# Altium schematic symbol library 0ALD488.SCHLIB: 78 symbols
Pins are listed as number, name and electrical type; pins without a type are passive.

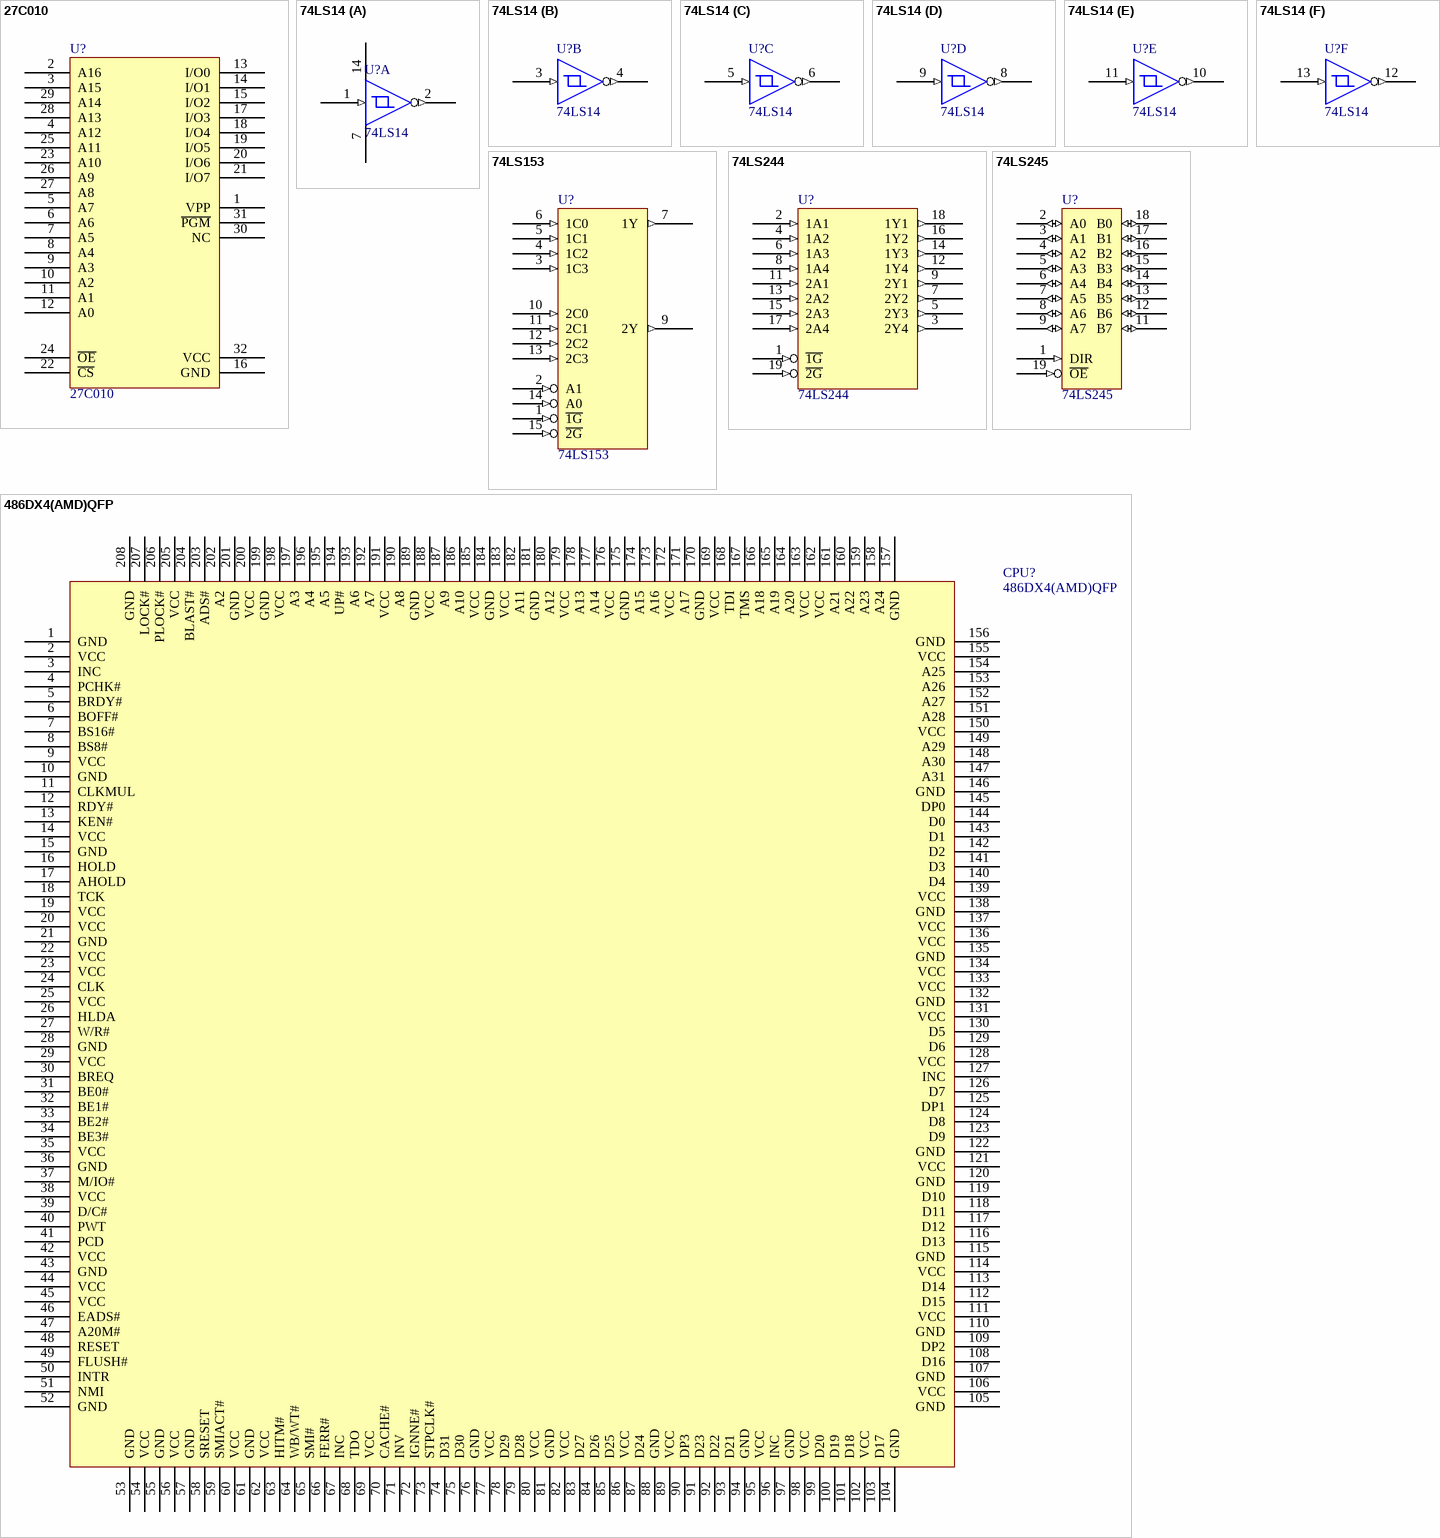
[diagram p0: symbols 27C010 to 486DX4(AMD)QFP]

## 27C010
designator U?
footprint DIP32
footprint ZIF32
pins: 1 VPP, 2 A16, 3 A15, 4 A12, 5 A7, 6 A6, 7 A5, 8 A4, 9 A3, 10 A2, 11 A1, 12 A0, 13 I/O0, 14 I/O1, 15 I/O2, 16 GND, 17 I/O3, 18 I/O4, 19 I/O5, 20 I/O6, 21 I/O7, 22 ~{CS}, 23 A10, 24 ~{OE}, 25 A11, 26 A9, 27 A8, 28 A13, 29 A14, 30 NC, 31 ~{PGM}, 32 VCC

## 74LS14
designator U?
footprint DIP-14
footprint SO-14
part A pins: 1 (in), 2 (out), 7 GND (power), 14 (power)
part B pins: 3 (in), 4 (out)
part C pins: 5 (in), 6 (out)
part D pins: 8 (out), 9 (in)
part E pins: 10 (out), 11 (in)
part F pins: 12 (out), 13 (in)

## 74LS153
designator U?
footprint DIP-16
pins: 1 ~{1G} (in), 2 A1 (in), 3 1C3 (in), 4 1C2 (in), 5 1C1 (in), 6 1C0 (in), 7 1Y (out), 8 GND (power) hidden to GND, 9 2Y (out), 10 2C0 (in), 11 2C1 (in), 12 2C2 (in), 13 2C3 (in), 14 A0 (in), 15 ~{2G} (in), 16 VCC (power) hidden to VCC

## 74LS244
designator U?
footprint DIP-20
footprint DIP20
pins: 1 ~{1G} (in), 2 1A1 (in), 3 2Y4 (out), 4 1A2 (in), 5 2Y3 (out), 6 1A3 (in), 7 2Y2 (out), 8 1A4 (in), 9 2Y1 (out), 10 GND (power) hidden to GND, 11 2A1 (in), 12 1Y4 (out), 13 2A2 (in), 14 1Y3 (out), 15 2A3 (in), 16 1Y2 (out), 17 2A4 (in), 18 1Y1 (out), 19 ~{2G} (in), 20 VCC (power) hidden to VCC

## 74LS245
designator U?
footprint DIP-20
footprint DIP20
footprint SOP20
pins: 1 DIR (in), 2 A0 (io), 3 A1 (io), 4 A2 (io), 5 A3 (io), 6 A4 (io), 7 A5 (io), 8 A6 (io), 9 A7 (io), 10 GND (power) hidden to GND, 11 B7 (io), 12 B6 (io), 13 B5 (io), 14 B4 (io), 15 B3 (io), 16 B2 (io), 17 B1 (io), 18 B0 (io), 19 ~{OE} (in), 20 VCC (power) hidden to VCC

## 486DX4(AMD)QFP
designator CPU?
footprint QFP208
pins: 1 GND, 2 VCC, 3 INC, 4 PCHK#, 5 BRDY#, 6 BOFF#, 7 BS16#, 8 BS8#, 9 VCC, 10 GND, 11 CLKMUL, 12 RDY#, 13 KEN#, 14 VCC, 15 GND, 16 HOLD, 17 AHOLD, 18 TCK, 19 VCC, 20 VCC, 21 GND, 22 VCC, 23 VCC, 24 CLK, 25 VCC, 26 HLDA, 27 W/R#, 28 GND, 29 VCC, 30 BREQ, 31 BE0#, 32 BE1#, 33 BE2#, 34 BE3#, 35 VCC, 36 GND, 37 M/IO#, 38 VCC, 39 D/C#, 40 PWT, 41 PCD, 42 VCC, 43 GND, 44 VCC, 45 VCC, 46 EADS#, 47 A20M#, 48 RESET, 49 FLUSH#, 50 INTR, 51 NMI, 52 GND, 53 GND, 54 VCC, 55 GND, 56 VCC, 57 GND, 58 SRESET, 59 SMIACT#, 60 VCC, 61 GND, 62 VCC, 63 HITM#, 64 WB/WT#, 65 SMI#, 66 FERR#, 67 INC, 68 TDO, 69 VCC, 70 CACHE#, 71 INV, 72 IGNNE#, 73 STPCLK#, 74 D31, 75 D30, 76 GND, 77 VCC, 78 D29, 79 D28, 80 VCC, 81 GND, 82 VCC, 83 D27, 84 D26, 85 D25, 86 VCC, 87 D24, 88 GND, 89 VCC, 90 DP3, 91 D23, 92 D22, 93 D21, 94 GND, 95 VCC, 96 INC, 97 GND, 98 VCC, 99 D20, 100 D19, 101 D18, 102 VCC, 103 D17, 104 GND, 105 GND, 106 VCC, 107 GND, 108 D16, 109 DP2, 110 GND, 111 VCC, 112 D15, 113 D14, 114 VCC, 115 GND, 116 D13, 117 D12, 118 D11, 119 D10, 120 GND, 121 VCC, 122 GND, 123 D9, 124 D8, 125 DP1, 126 D7, 127 INC, 128 VCC, 129 D6, 130 D5, 131 VCC, 132 GND, 133 VCC, 134 VCC, 135 GND, 136 VCC, 137 VCC, 138 GND, 139 VCC, 140 D4, 141 D3, 142 D2, 143 D1, 144 D0, 145 DP0, 146 GND, 147 A31, 148 A30, 149 A29, 150 VCC, 151 A28, 152 A27, 153 A26, 154 A25, 155 VCC, 156 GND, 157 GND, 158 A24, 159 A23, 160 A22, 161 A21, 162 VCC, 163 VCC, 164 A20, 165 A19, 166 A18, 167 TMS, 168 TDI, 169 VCC, 170 GND, 171 A17, 172 VCC, 173 A16, 174 A15, 175 GND, 176 VCC, 177 A14, 178 A13, 179 VCC, 180 A12, 181 GND, 182 A11, 183 VCC, 184 GND, 185 VCC, 186 A10, 187 A9, 188 VCC, 189 GND, 190 A8, 191 VCC, 192 A7, 193 A6, 194 UP#, 195 A5, 196 A4, 197 A3, 198 VCC, 199 GND, 200 VCC, 201 GND, 202 A2, 203 ADS#, 204 BLAST#, 205 VCC, 206 PLOCK#, 207 LOCK#, 208 GND

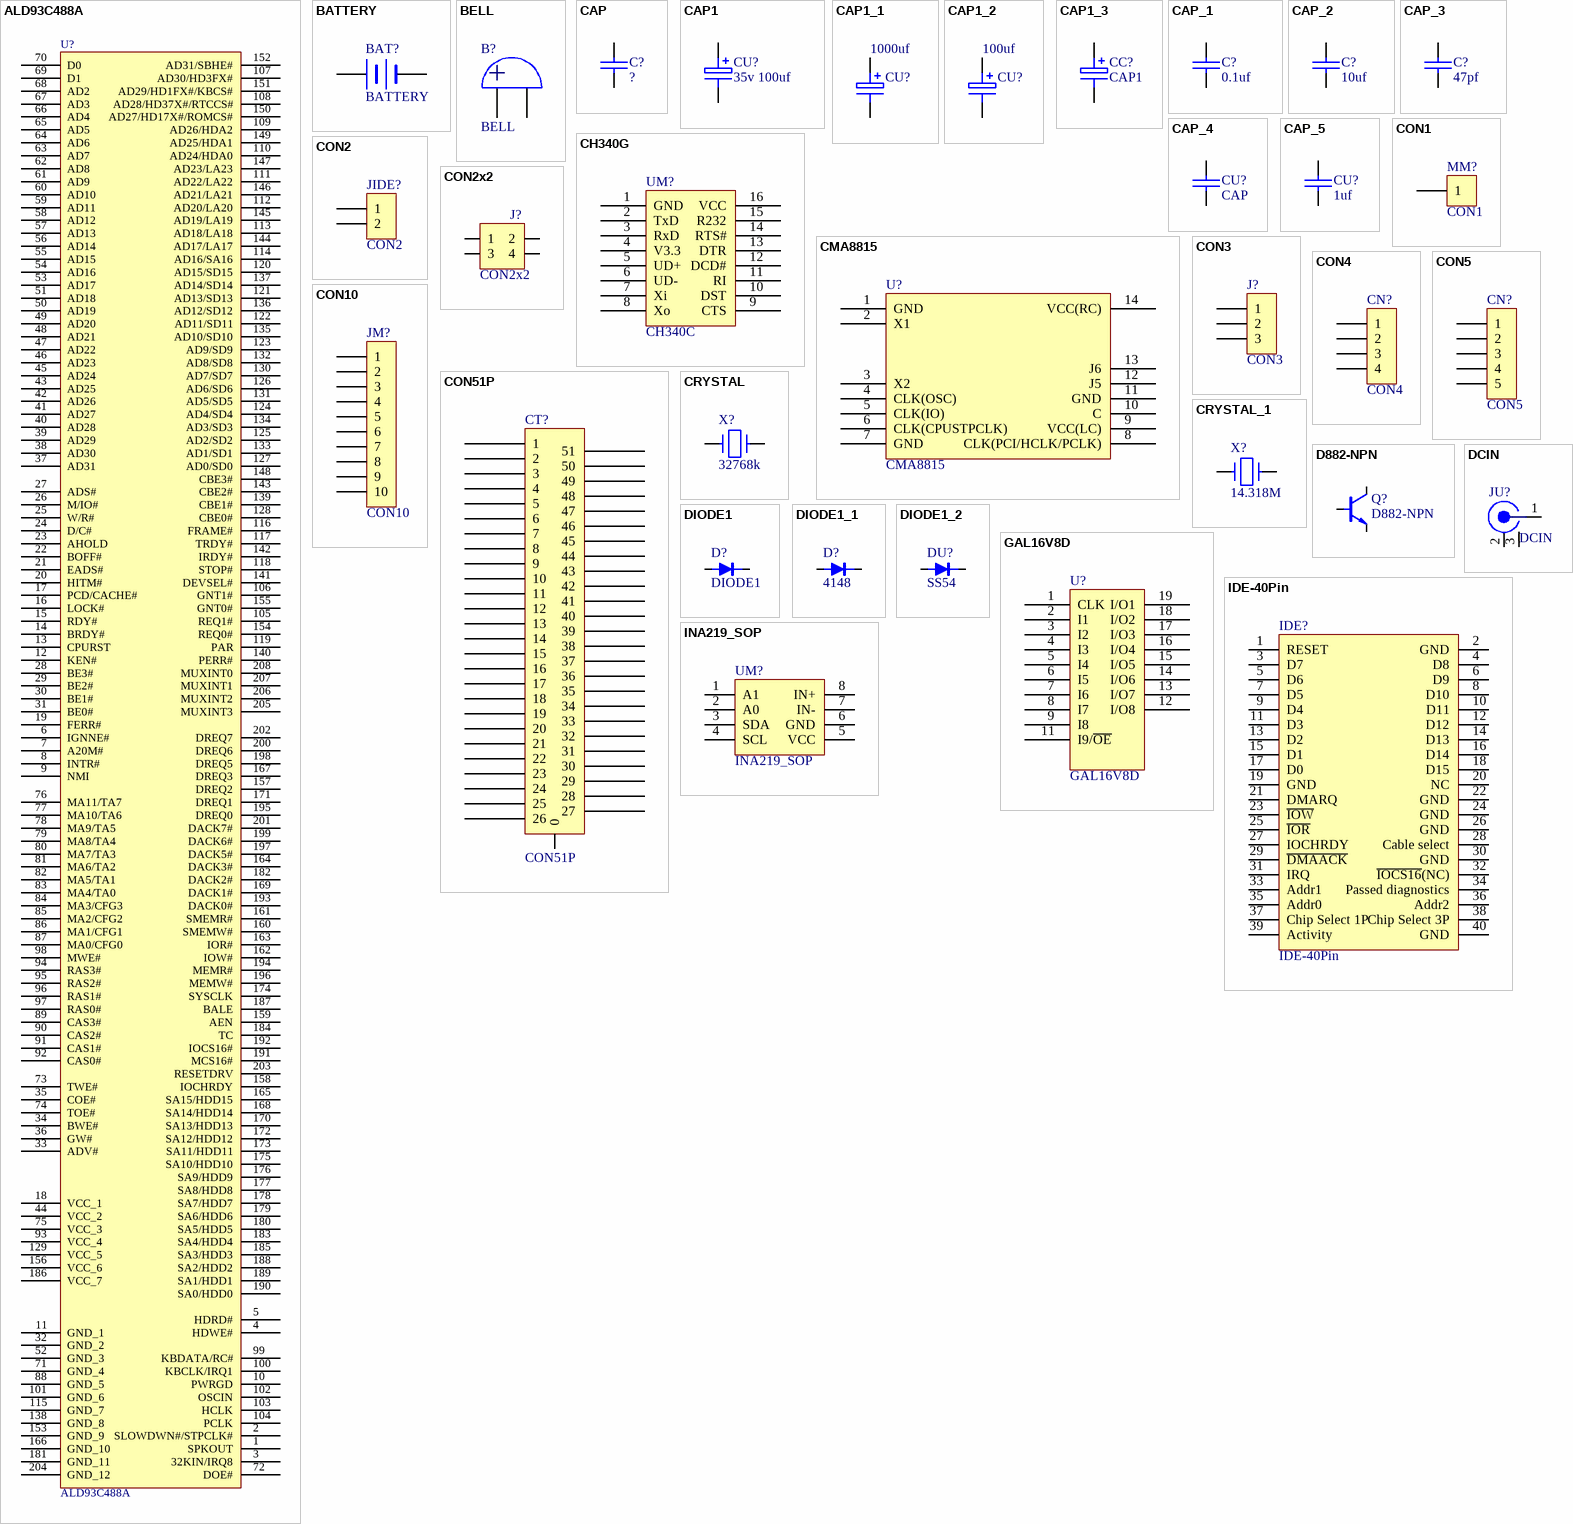
[diagram p1: symbols ALD93C488A to INA219_SOP]

## ALD93C488A
designator U?
footprint QFP208
pins: 1 SPKOUT, 2 SLOWDWN#/STPCLK#, 3 32KIN/IRQ8, 4 HDWE#, 5 HDRD#, 6 IGNNE#, 7 A20M#, 8 INTR#, 9 NMI, 10 PWRGD, 11 GND_1, 12 KEN#, 13 CPURST, 14 BRDY#, 15 RDY#, 16 LOCK#, 17 PCD/CACHE#, 18 VCC_1, 19 FERR#, 20 HITM#, 21 EADS#, 22 BOFF#, 23 AHOLD, 24 D/C#, 25 W/R#, 26 M/IO#, 27 ADS#, 28 BE3#, 29 BE2#, 30 BE1#, 31 BE0#, 32 GND_2, 33 ADV#, 34 BWE#, 35 COE#, 36 GW#, 37 AD31, 38 AD30, 39 AD29, 40 AD28, 41 AD27, 42 AD26, 43 AD25, 44 VCC_2, 45 AD24, 46 AD23, 47 AD22, 48 AD21, 49 AD20, 50 AD19, 51 AD18, 52 GND_3, 53 AD17, 54 AD16, 55 AD15, 56 AD14, 57 AD13, 58 AD12, 59 AD11, 60 AD10, 61 AD9, 62 AD8, 63 AD7, 64 AD6, 65 AD5, 66 AD4, 67 AD3, 68 AD2, 69 D1, 70 D0, 71 GND_4, 72 DOE#, 73 TWE#, 74 TOE#, 75 VCC_3, 76 MA11/TA7, 77 MA10/TA6, 78 MA9/TA5, 79 MA8/TA4, 80 MA7/TA3, 81 MA6/TA2, 82 MA5/TA1, 83 MA4/TA0, 84 MA3/CFG3, 85 MA2/CFG2, 86 MA1/CFG1, 87 MA0/CFG0, 88 GND_5, 89 CAS3#, 90 CAS2#, 91 CAS1#, 92 CAS0#, 93 VCC_4, 94 RAS3#, 95 RAS2#, 96 RAS1#, 97 RAS0#, 98 MWE#, 99 KBDATA/RC#, 100 KBCLK/IRQ1, 101 GND_6, 102 OSCIN, 103 HCLK, 104 PCLK, 105 REQ1#, 106 GNT1#, 107 AD30/HD3FX#, 108 AD28/HD37X#/RTCCS#, 109 AD26/HDA2, 110 AD24/HDA0, 111 AD22/LA22, 112 AD20/LA20, 113 AD18/LA18, 114 AD16/SA16, 115 GND_7, 116 FRAME#, 117 TRDY#, 118 STOP#, 119 PAR, 120 AD15/SD15, 121 AD13/SD13, 122 AD11/SD11, 123 AD9/SD9, 124 AD4/SD4, 125 AD2/SD2, 126 AD6/SD6, 127 AD0/SD0, 128 CBE0#, 129 VCC_5, 130 AD7/SD7, 131 AD5/SD5, 132 AD8/SD8, 133 AD1/SD1, 134 AD3/SD3, 135 AD10/SD10, 136 AD12/SD12, 137 AD14/SD14, 138 GND_8, 139 CBE1#, 140 PERR#, 141 DEVSEL#, 142 IRDY#, 143 CBE2#, 144 AD17/LA17, 145 AD19/LA19, 146 AD21/LA21, 147 AD23/LA23, 148 CBE3#, 149 AD25/HDA1, 150 AD27/HD17X#/ROMCS#, 151 AD29/HD1FX#/KBCS#, 152 AD31/SBHE#, 153 GND_9, 154 REQ0#, 155 GNT0#, 156 VCC_6, 157 DREQ2, 158 IOCHRDY, 159 AEN, 160 SMEMW#, 161 SMEMR#, 162 IOW#, 163 IOR#, 164 DACK3#, 165 SA15/HDD15, 166 GND_10, 167 DREQ3, 168 SA14/HDD14, 169 DACK1#, 170 SA13/HDD13, 171 DREQ1, 172 SA12/HDD12, 173 SA11/HDD11, 174 SYSCLK, 175 SA10/HDD10, 176 SA9/HDD9, 177 SA8/HDD8, 178 SA7/HDD7, 179 SA6/HDD6, 180 SA5/HDD5, 181 GND_11, 182 DACK2#, 183 SA4/HDD4, 184 TC, 185 SA3/HDD3, 186 VCC_7, 187 BALE, 188 SA2/HDD2, 189 SA1/HDD1, 190 SA0/HDD0, 191 MCS16#, 192 IOCS16#, 193 DACK0#, 194 MEMR#, 195 DREQ0, 196 MEMW#, 197 DACK5#, 198 DREQ5, 199 DACK6#, 200 DREQ6, 201 DACK7#, 202 DREQ7, 203 RESETDRV, 204 GND_12, 205 MUXINT3, 206 MUXINT2, 207 MUXINT1, 208 MUXINT0

## BATTERY
designator BAT?
footprint BATTERY
footprint 3v battery
footprint MY-BATT10mm
footprint BATTERY3
pins: 1 +, 2 -

## BELL
designator B?
footprint bell
footprint BELL_8530
pins: 1, 2

## CAP
designator C?, comment ?
footprint RAD0.1
footprint RAD0.2
footprint RAD0.3
footprint C0805
footprint C0603
pins: 1, 2

## CAP1
designator CU?, comment 35v 100uf
footprint RB.1/.2
footprint RB.1/.2A
footprint RB.2/.4
footprint CD4
footprint SMD-EC-F6.3
footprint SMD-EC-F5
footprint CD6
pins: 1, 2 E

## CAP1_1
designator CU?, comment 1000uf
footprint RB.1/.2
footprint RB.1/.2A
footprint RB.2/.4
footprint CD4
footprint SMD-EC-F6.3
footprint SMD-EC-F10
footprint C2512
footprint C7343
pins: 1, 2 E

## CAP1_2
designator CU?, comment 100uf
footprint RB.1/.2
footprint RB.1/.2A
footprint RB.2/.4
footprint CD4
footprint SMD-EC-F6.3
footprint SMD-EC-F10
footprint C2512
footprint C7343
pins: 1, 2 E

## CAP1_3
designator CC?, comment CAP1
footprint RB.1/.2
footprint RB.1/.2A
footprint RB.2/.4
footprint CD4
footprint SMD-EC-F6.3
footprint SMD-EC-F10
footprint C2512
pins: 1, 2 E

## CAP_1
designator C?, comment 0.1uf
footprint RAD0.1
footprint RAD0.2
footprint RAD0.3
footprint C0805
footprint C0603
pins: 1, 2

## CAP_2
designator C?, comment 10uf
footprint RAD0.1
footprint RAD0.2
footprint RAD0.3
footprint C0805
footprint C0603
pins: 1, 2

## CAP_3
designator C?, comment 47pf
footprint RAD0.1
footprint RAD0.2
footprint RAD0.3
footprint C0805
footprint C0603
pins: 1, 2

## CAP_4
designator CU?, comment CAP
footprint RAD0.1
footprint RAD0.2
footprint RAD0.3
footprint C0805
footprint C0603
pins: 1, 2

## CAP_5
designator CU?, comment 1uf
footprint RAD0.1
footprint RAD0.2
footprint RAD0.3
footprint SMD-EC-F6.3
footprint C0805
footprint C0603
pins: 1, 2

## CH340G
designator UM?, comment CH340C
footprint SOP-16
pins: 1 GND, 2 TxD, 3 RxD, 4 V3.3, 5 UD+, 6 UD-, 7 Xi, 8 Xo, 9 CTS, 10 DST, 11 RI, 12 DCD#, 13 DTR, 14 RTS#, 15 R232, 16 VCC

## CMA8815
designator U?
footprint DIP14
pins: 1 GND, 2 X1, 3 X2, 4 CLK(OSC), 5 CLK(IO), 6 CLK(CPUSTPCLK), 7 GND, 8 CLK(PCI/HCLK/PCLK), 9 VCC(LC), 10 C, 11 GND, 12 J5, 13 J6, 14 VCC(RC)

## CON1
designator MM?
footprint SIP1
footprint PAD-SMD
footprint PAD-DIP1mm
footprint M2
footprint M2.5
footprint M3
pins: 1

## CON2
designator JIDE?
footprint DG1282-5.0
footprint SIP2
footprint DG1282
footprint XH2.54-2
footprint KF127-2(5.08)
footprint VH3.96-2
footprint 1.25mmA-2P (立贴)
footprint 1.25mmB-2P (卧贴)
pins: 1, 2

## CON2x2
designator J?
footprint SIP2x2(2.54)
pins: 1, 2, 3, 4

## CON3
designator J?
footprint DG1283-5.0
footprint SIP3
pins: 1, 2, 3

## CON4
designator CN?
footprint DG1284-5.0
footprint SIP4
footprint DG1284
footprint XH2.54-4
footprint 1.25mmA-4P (立贴)
footprint 1.25mmB-4P (卧贴)
pins: 1, 2, 3, 4

## CON5
designator CN?
footprint PS2-XT-5
footprint SIP5
pins: 1, 2, 3, 4, 5

## CON10
designator JM?
footprint DG12810-5.0
footprint sip10
pins: 1, 2, 3, 4, 5, 6, 7, 8, 9, 10

## CON51P
designator CT?
footprint BTB1.0-51P
pins: 0, 1, 2, 3, 4, 5, 6, 7, 8, 9, 10, 11, 12, 13, 14, 15, 16, 17, 18, 19, 20, 21, 22, 23, 24, 25, 26, 27, 28, 29, 30, 31, 32, 33, 34, 35, 36, 37, 38, 39, 40, 41, 42, 43, 44, 45, 46, 47, 48, 49, 50, 51

## CRYSTAL
designator X?, comment 32768k
footprint XTAL
footprint 5032
footprint XTAL3213
footprint CRY-26 (CRYSTAL)
pins: 1, 2

## CRYSTAL_1
designator X?, comment 14.318M
footprint XTAL
footprint 5032
footprint XTAL3213
pins: 1, 2

## D882-NPN
designator Q?
footprint TO-126A
pins: 1 E, 2 C, 3 B

## DCIN
designator JU?
Connector
footprint DC5.5-2.5
footprint DC5.5-2.5 - 10A
footprint DC4-1.3
pins: 1 +, 2 -, 3 -

## DIODE1
designator D?
footprint DIODE0.4A
footprint DO-214A(SMA)
footprint TO-252(DPAK) (D2-PAK/TO-263-AB; 3 Leads (1 Cropped); Body 15.5 (inc. leads) x 10.5 mm (LxW max))
footprint SOD123
footprint SOD323
footprint SMx
pins: A, K

## DIODE1_1
designator D?, comment 4148
footprint DIODE0.4A
footprint DO-214A(SMA)
footprint TO-252(DPAK) (D2-PAK/TO-263-AB; 3 Leads (1 Cropped); Body 15.5 (inc. leads) x 10.5 mm (LxW max))
footprint SOD123
footprint SOD323
footprint SMx
pins: A, K

## DIODE1_2
designator DU?, comment SS54
footprint DIODE0.4A
footprint DO-214A(SMA)
footprint TO-252(DPAK) (D2-PAK/TO-263-AB; 3 Leads (1 Cropped); Body 15.5 (inc. leads) x 10.5 mm (LxW max))
footprint SOD123
footprint SOD323
pins: A, K

## GAL16V8D
designator U?
footprint DIP-20
footprint DIP20
pins: 1 CLK, 2 I1, 3 I2, 4 I3, 5 I4, 6 I5, 7 I6, 8 I7, 9 I8, 10 GND (power) hidden to GND, 11 I9/~{OE}, 12 I/O8, 13 I/O7, 14 I/O6, 15 I/O5, 16 I/O4, 17 I/O3, 18 I/O2, 19 I/O1, 20 VCC (power) hidden to VCC

## IDE-40Pin
designator IDE?
footprint MY-IDE40
pins: 1 RESET, 2 GND, 3 D7, 4 D8, 5 D6, 6 D9, 7 D5, 8 D10, 9 D4, 10 D11, 11 D3, 12 D12, 13 D2, 14 D13, 15 D1, 16 D14, 17 D0, 18 D15, 19 GND, 20 NC, 21 DMARQ, 22 GND, 23 ~{IOW}, 24 GND, 25 ~{IOR}, 26 GND, 27 IOCHRDY, 28 Cable select, 29 ~{DMAACK}, 30 GND, 31 IRQ, 32 ~{IOCS16}(NC), 33 Addr1, 34 Passed diagnostics, 35 Addr0, 36 Addr2, 37 Chip Select 1P, 38 Chip Select 3P, 39 Activity, 40 GND

## INA219_SOP
designator UM?
footprint SO-8
pins: 1 A1, 2 A0, 3 SDA, 4 SCL, 5 VCC, 6 GND, 7 IN-, 8 IN+

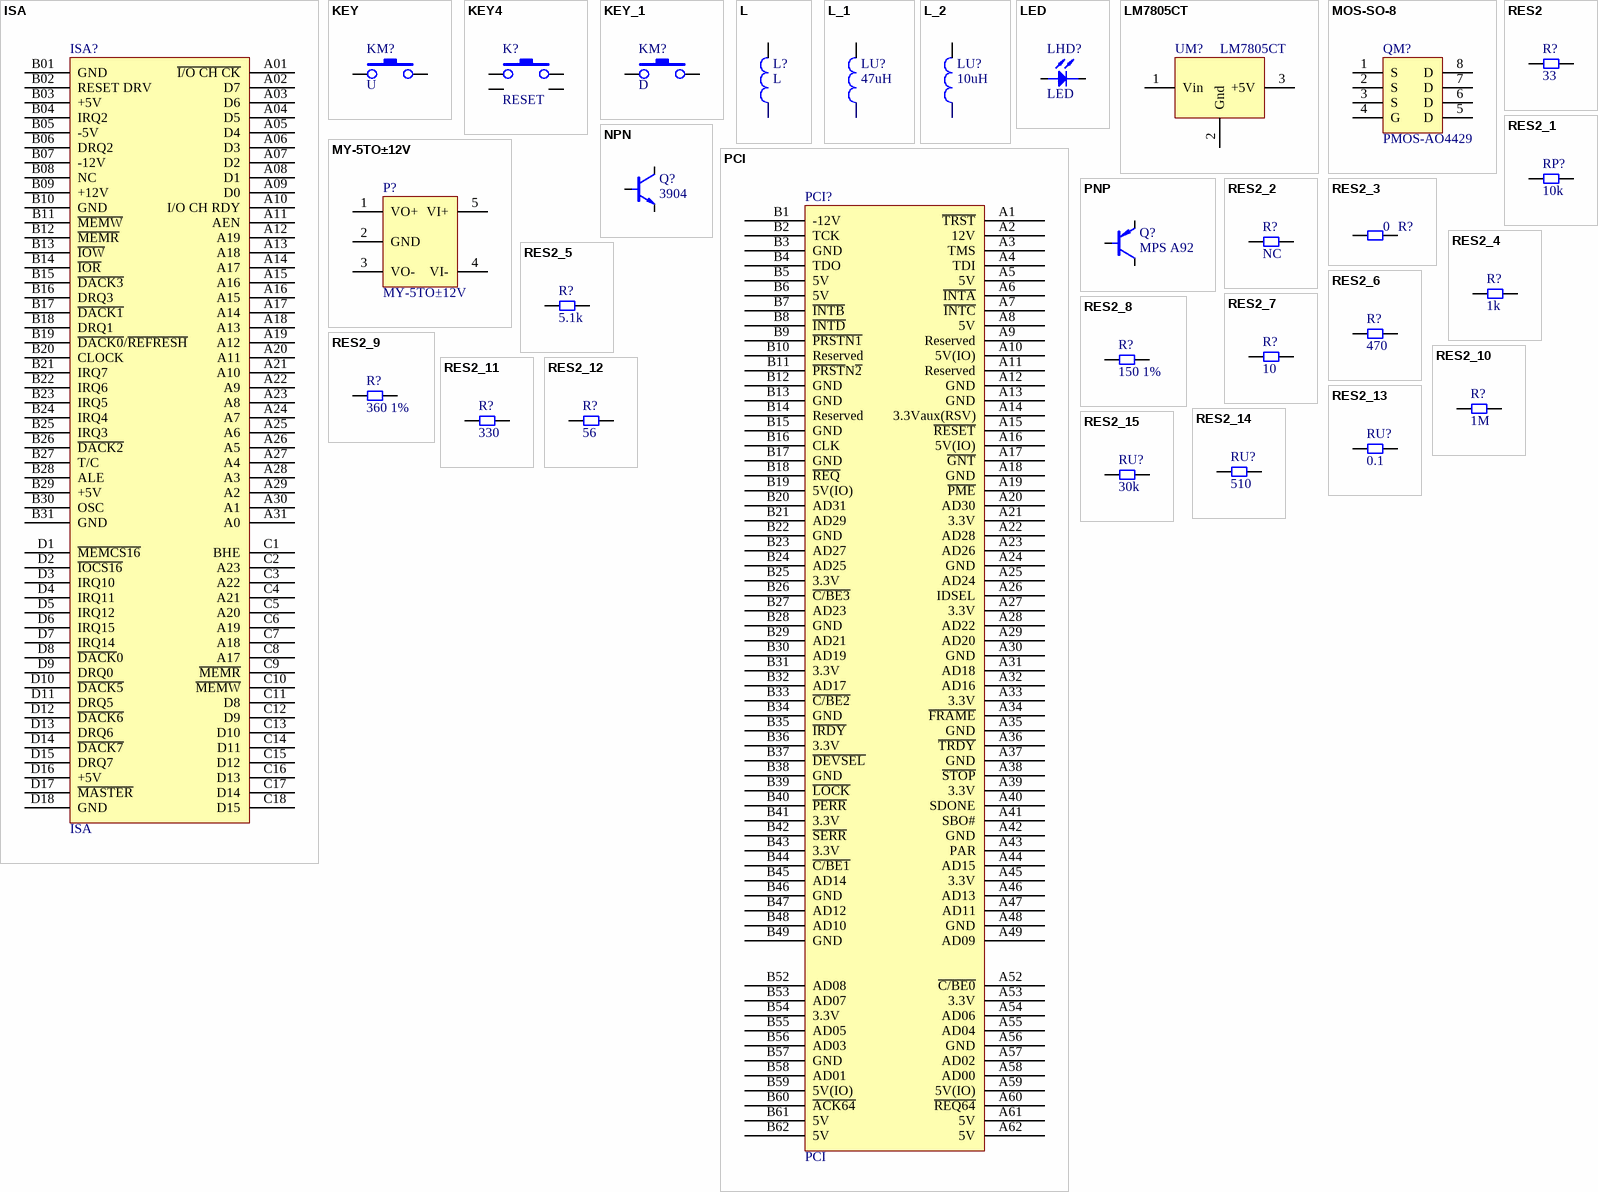
[diagram p2: symbols ISA to RES2_15]

## ISA
designator ISA?
footprint PCI
footprint MY-ISA16-98
pins: A01 ~{I/O CH CK}, A02 D7, A03 D6, A04 D5, A05 D4, A06 D3, A07 D2, A08 D1, A09 D0, A10 I/O CH RDY, A11 AEN, A12 A19, A13 A18, A14 A17, A15 A16, A16 A15, A17 A14, A18 A13, A19 A12, A20 A11, A21 A10, A22 A9, A23 A8, A24 A7, A25 A6, A26 A5, A27 A4, A28 A3, A29 A2, A30 A1, A31 A0, B01 GND, B02 RESET DRV, B03 +5V, B04 IRQ2, B05 -5V, B06 DRQ2, B07 -12V, B08 NC, B09 +12V, B10 GND, B11 ~{MEMW}, B12 ~{MEMR}, B13 ~{IOW}, B14 ~{IOR}, B15 ~{DACK3}, B16 DRQ3, B17 ~{DACK1}, B18 DRQ1, B19 ~{DACK0}/~{REFRESH}, B20 CLOCK, B21 IRQ7, B22 IRQ6, B23 IRQ5, B24 IRQ4, B25 IRQ3, B26 ~{DACK2}, B27 T/C, B28 ALE, B29 +5V, B30 OSC, B31 GND, C1 BHE, C2 A23, C3 A22, C4 A21, C5 A20, C6 A19, C7 A18, C8 A17, C9 ~{MEMR}, C10 ~{MEMW}, C11 D8, C12 D9, C13 D10, C14 D11, C15 D12, C16 D13, C17 D14, C18 D15, D1 ~{MEMCS16}, D2 ~{IOCS16}, D3 IRQ10, D4 IRQ11, D5 IRQ12, D6 IRQ15, D7 IRQ14, D8 ~{DACK}0, D9 DRQ0, D10 ~{DACK5}, D11 DRQ5, D12 ~{DACK6}, D13 DRQ6, D14 ~{DACK7}, D15 DRQ7, D16 +5V, D17 ~{MASTER}, D18 GND

## KEY
designator KM?, comment U
footprint AN12
footprint AN66
footprint Button_4
footprint Button_3x6x2.5
pins: 1, 2

## KEY4
designator K?, comment RESET
footprint AN12
footprint AN66
footprint Button_4
footprint Button_3x6x2.5
footprint B-6x6SMD
pins: 1, 2, 3, 4

## KEY_1
designator KM?, comment D
footprint AN12
footprint AN66
footprint Button_4
footprint Button_3x6x2.5
pins: 1, 2

## L
designator L?
footprint L1260 (33uH)
footprint L0603
footprint L0805
footprint AXIAL0.4
pins: 1, 2

## L_1
designator LU?, comment 47uH
footprint L1260 (33uH)
footprint L7x7 (33uH)
footprint L1010 (33uH)
pins: 1, 2

## L_2
designator LU?, comment 10uH
footprint L1260 (33uH)
footprint L0805
pins: 1, 2

## LED
designator LHD?
footprint LED
footprint LED0805
footprint LED0603
pins: 1, 2

## LM7805CT
designator UM?
footprint TO-220
footprint TO-252(DPAK) (D2-PAK/TO-263-AB; 3 Leads (1 Cropped); Body 15.5 (inc. leads) x 10.5 mm (LxW max))
pins: 1 Vin, 2 Gnd, 3 +5V

## MOS-SO-8
designator QM?, comment PMOS-AO4429
footprint SO-8
pins: 1 S, 2 S, 3 S, 4 G, 5 D, 6 D, 7 D, 8 D

## MY-5TO±12V
designator P?
footprint MY-5TO±12
pins: 1 VO+, 2 GND, 3 VO-, 4 VI-, 5 VI+

## NPN
designator Q?, comment 3904
footprint TO-92
footprint SOT23
pins: B b, C c, E e

## PCI
designator PCI?
footprint PCI
pins: A1 ~{TRST}, A2 12V, A3 TMS, A4 TDI, A5 5V, A6 ~{INTA}, A7 ~{INTC}, A8 5V, A9 Reserved, A10 5V(IO), A11 Reserved, A12 GND, A13 GND, A14 3.3Vaux(RSV), A15 ~{RESET}, A16 5V(IO), A17 ~{GNT}, A18 GND, A19 ~{PME}, A20 AD30, A21 3.3V, A22 AD28, A23 AD26, A24 GND, A25 AD24, A26 IDSEL, A27 3.3V, A28 AD22, A29 AD20, A30 GND, A31 AD18, A32 AD16, A33 3.3V, A34 ~{FRAME}, A35 GND, A36 ~{TRDY}, A37 GND, A38 ~{STOP}, A39 3.3V, A40 SDONE, A41 SBO#, A42 GND, A43 PAR, A44 AD15, A45 3.3V, A46 AD13, A47 AD11, A48 GND, A49 AD09, A52 ~{C/BE0}, A53 3.3V, A54 AD06, A55 AD04, A56 GND, A57 AD02, A58 AD00, A59 5V(IO), A60 ~{REQ64}, A61 5V, A62 5V, B1 -12V, B2 TCK, B3 GND, B4 TDO, B5 5V, B6 5V, B7 ~{INTB}, B8 ~{INTD}, B9 ~{PRSTN1}, B10 Reserved, B11 ~{PRST}N~{2}, B12 GND, B13 GND, B14 Reserved, B15 GND, B16 CLK, B17 GND, B18 ~{REQ}, B19 5V(IO), B20 AD31, B21 AD29, B22 GND, B23 AD27, B24 AD25, B25 3.3V, B26 ~{C/BE3}, B27 AD23, B28 GND, B29 AD21, B30 AD19, B31 3.3V, B32 AD17, B33 ~{C/BE2}, B34 GND, B35 ~{IRDY}, B36 3.3V, B37 ~{DEVSEL}, B38 GND, B39 ~{LOCK}, B40 ~{PERR}, B41 3.3V, B42 ~{SERR}, B43 3.3V, B44 ~{C/BE1}, B45 AD14, B46 GND, B47 AD12, B48 AD10, B49 GND, B52 AD08, B53 AD07, B54 3.3V, B55 AD05, B56 AD03, B57 GND, B58 AD01, B59 5V(IO), B60 ~{ACK64}, B61 5V, B62 5V

## PNP
designator Q?, comment MPS A92
footprint TO-92
footprint SOT23
pins: B b, C c, E e

## RES2
designator R?, comment 33
footprint AXIAL0.3
footprint AXIAL0.4
footprint 2512
footprint R0805
footprint R0603
pins: 1, 2

## RES2_1
designator RP?, comment 10k
footprint AXIAL0.3
footprint AXIAL0.4
footprint 2512
footprint R0805
footprint R0603
pins: 1, 2

## RES2_2
designator R?, comment NC
footprint AXIAL0.3
footprint AXIAL0.4
footprint 2512
footprint R0805
footprint R0603
pins: 1, 2

## RES2_3
designator R?, comment 0
footprint AXIAL0.3
footprint AXIAL0.4
footprint 2512
footprint R0805
footprint R0603
pins: 1, 2

## RES2_4
designator R?, comment 1k
footprint AXIAL0.3
footprint AXIAL0.4
footprint 2512
footprint R0805
footprint R0603
pins: 1, 2

## RES2_5
designator R?, comment 5.1k
footprint AXIAL0.3
footprint AXIAL0.4
footprint 2512
footprint R0805
footprint R0603
pins: 1, 2

## RES2_6
designator R?, comment 470
footprint AXIAL0.3
footprint AXIAL0.4
footprint 2512
footprint R0805
footprint R0603
pins: 1, 2

## RES2_7
designator R?, comment 10
footprint AXIAL0.3
footprint AXIAL0.4
footprint 2512
footprint R0805
footprint R0603
pins: 1, 2

## RES2_8
designator R?, comment 150 1%
footprint AXIAL0.3
footprint AXIAL0.4
footprint 2512
footprint R0805
footprint R0603
pins: 1, 2

## RES2_9
designator R?, comment 360 1%
footprint AXIAL0.3
footprint AXIAL0.4
footprint 2512
footprint R0805
footprint R0603
pins: 1, 2

## RES2_10
designator R?, comment 1M
footprint AXIAL0.3
footprint AXIAL0.4
footprint 2512
footprint R0805
footprint R0603
pins: 1, 2

## RES2_11
designator R?, comment 330
footprint AXIAL0.3
footprint AXIAL0.4
footprint 2512
footprint R0805
footprint R0603
pins: 1, 2

## RES2_12
designator R?, comment 56
footprint AXIAL0.3
footprint AXIAL0.4
footprint 2512
footprint R0805
footprint R0603
pins: 1, 2

## RES2_13
designator RU?, comment 0.1
footprint AXIAL0.3
footprint AXIAL0.4
footprint 2512
footprint R0805
footprint R0603
footprint 1812 (Chip Capacitor; Body 4.5 x 3.2 mm (LxW typ))
footprint 1210 (Chip Capacitor; Body 3.2 x 2.5 mm (LxW typ))
pins: 1, 2

## RES2_14
designator RU?, comment 510
footprint AXIAL0.3
footprint AXIAL0.4
footprint 2512
footprint R0805
footprint R0603
pins: 1, 2

## RES2_15
designator RU?, comment 30k
footprint AXIAL0.3
footprint AXIAL0.4
footprint 2512
footprint R0805
footprint R0603
pins: 1, 2

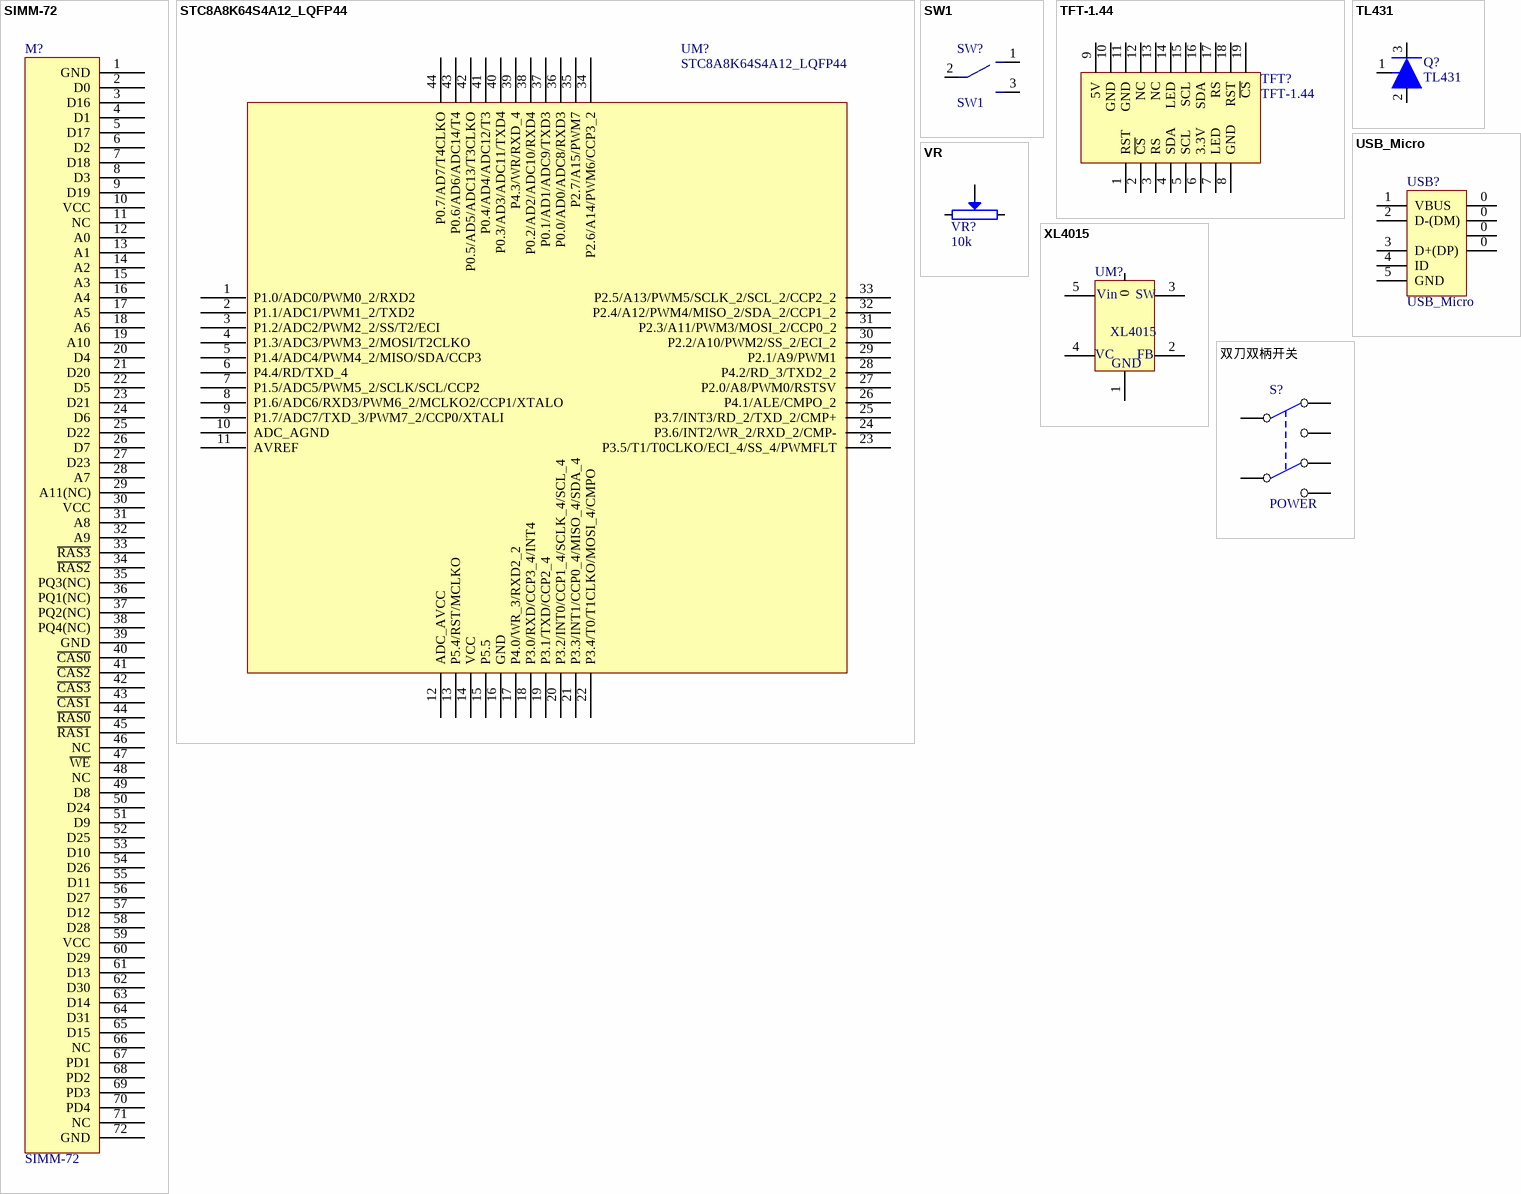
[diagram p3: symbols SIMM-72 to 双刀双柄开关]

## SIMM-72
designator M?
footprint MY-SIMM72
pins: 1 GND, 2 D0, 3 D16, 4 D1, 5 D17, 6 D2, 7 D18, 8 D3, 9 D19, 10 VCC, 11 NC, 12 A0, 13 A1, 14 A2, 15 A3, 16 A4, 17 A5, 18 A6, 19 A10, 20 D4, 21 D20, 22 D5, 23 D21, 24 D6, 25 D22, 26 D7, 27 D23, 28 A7, 29 A11(NC), 30 VCC, 31 A8, 32 A9, 33 ~{RAS3}, 34 ~{RAS2}, 35 PQ3(NC), 36 PQ1(NC), 37 PQ2(NC), 38 PQ4(NC), 39 GND, 40 ~{CAS0}, 41 ~{CAS2}, 42 ~{CAS3}, 43 ~{CAS1}, 44 ~{RAS0}, 45 ~{RAS1}, 46 NC, 47 ~{WE}, 48 NC, 49 D8, 50 D24, 51 D9, 52 D25, 53 D10, 54 D26, 55 D11, 56 D27, 57 D12, 58 D28, 59 VCC, 60 D29, 61 D13, 62 D30, 63 D14, 64 D31, 65 D15, 66 NC, 67 PD1, 68 PD2, 69 PD3, 70 PD4, 71 NC, 72 GND

## STC8A8K64S4A12_LQFP44
designator UM?
footprint LQFP44
footprint PQFP44
footprint LQFP44
pins: 1 P1.0/ADC0/PWM0_2/RXD2, 2 P1.1/ADC1/PWM1_2/TXD2, 3 P1.2/ADC2/PWM2_2/SS/T2/ECI, 4 P1.3/ADC3/PWM3_2/MOSI/T2CLKO, 5 P1.4/ADC4/PWM4_2/MISO/SDA/CCP3, 6 P4.4/RD/TXD_4, 7 P1.5/ADC5/PWM5_2/SCLK/SCL/CCP2, 8 P1.6/ADC6/RXD3/PWM6_2/MCLKO2/CCP1/XTALO, 9 P1.7/ADC7/TXD_3/PWM7_2/CCP0/XTALI, 10 ADC_AGND, 11 AVREF, 12 ADC_AVCC, 13 P5.4/RST/MCLKO, 14 VCC, 15 P5.5, 16 GND, 17 P4.0/WR_3/RXD2_2, 18 P3.0/RXD/CCP3_4/INT4, 19 P3.1/TXD/CCP2_4, 20 P3.2/INT0/CCP1_4/SCLK_4/SCL_4, 21 P3.3/INT1/CCP0_4/MISO_4/SDA_4, 22 P3.4/T0/T1CLKO/MOSI_4/CMPO, 23 P3.5/T1/T0CLKO/ECI_4/SS_4/PWMFLT, 24 P3.6/INT2/WR_2/RXD_2/CMP-, 25 P3.7/INT3/RD_2/TXD_2/CMP+, 26 P4.1/ALE/CMPO_2, 27 P2.0/A8/PWM0/RSTSV, 28 P4.2/RD_3/TXD2_2, 29 P2.1/A9/PWM1, 30 P2.2/A10/PWM2/SS_2/ECI_2, 31 P2.3/A11/PWM3/MOSI_2/CCP0_2, 32 P2.4/A12/PWM4/MISO_2/SDA_2/CCP1_2, 33 P2.5/A13/PWM5/SCLK_2/SCL_2/CCP2_2, 34 P2.6/A14/PWM6/CCP3_2, 35 P2.7/A15/PWM7, 36 P0.0/AD0/ADC8/RXD3, 37 P0.1/AD1/ADC9/TXD3, 38 P0.2/AD2/ADC10/RXD4, 39 P4.3/WR/RXD_4, 40 P0.3/AD3/ADC11/TXD4, 41 P0.4/AD4/ADC12/T3, 42 P0.5/AD5/ADC13/T3CLKO, 43 P0.6/AD6/ADC14/T4, 44 P0.7/AD7/T4CLKO

## SW1
designator SW?
footprint SW1
footprint SW-2
pins: 1, 2, 3

## TFT-1.44
designator TFT?
footprint MY-1.44TFT
pins: 1 RST, 2 ~{CS}, 3 RS, 4 SDA, 5 SCL, 6 3.3V, 7 LED, 8 GND, 9 5V, 10 GND, 11 GND, 12 NC, 13 NC, 14 LED, 15 SCL, 16 SDA, 17 RS, 18 RST, 19 ~{CS}

## TL431
designator Q?
footprint TO92
pins: 1 REF, 2 A, 3 K

## USB_Micro
designator USB?
footprint USB_DIP5PA
footprint USB_Micro
footprint USB-mini-90°
pins: 0, 0, 0, 0, 1 VBUS, 2 D-(DM), 3 D+(DP), 4 ID, 5 GND

## VR
designator VR?, comment 10k
footprint VR3296
footprint VR3296-1
footprint 3x3P
pins: 1, 2, W

## XL4015
designator UM?
footprint TO-263(T)
footprint TO-220-5A
pins: 0, 1 GND, 2 VOUT, 3 VOUT, 4 VOUT, 5 VIN
text: Vin; SW; VC; FB

## 双刀双柄开关
designator S?, comment POWER
footprint SW 8x8
pins: 1 NO1, 2 NC1, 3 COMMON1, 4 NC2, 5 COMMON2, 6 NO2